# EAGLE library part OPT4048 (library Color_Sensor)
Texas Instruments - OPT4048 Tristiumulus XYZ Color Sensor The OPT4048 is a single-chip high resolution color sensor, capable of measuring four channels each with specific engineered spectral responses. Three of the four channels closely match the CIE tristimulus spectra with the fourth channel having a wide band spectral response. With measurements from these channels, important characteristics of the lighting environment can be extracted like (i) light intensity (lux), (ii) color in CIE XY, LUV coordinates and (iii) Correlated Color Temperature. The OPT4048 is available in a small SOT-5X3 package.
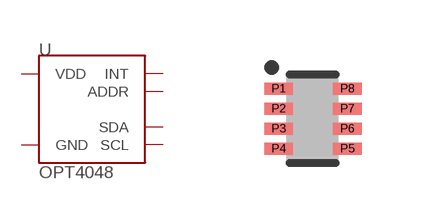
[diagram p0: symbol with the pads of FCSOT; footprint FCSOT]

Designator prefix U

## OPT4048 (PROD_ID: IC-18868)  [FCSOT]
P1  VDD
P2  ADDR
P4  GND
P5  SCL
P7  INT
P8  SDA

## Footprint FCSOT (pad centres in mm)
FCSOT Mechanical Specifications: Pad Size: .72mm x .3mm Pin count: 8 Pin pitch: .5mm Package Size: 1mm x 2mm Datasheet referenced for footprint <https://www.ti.com/lit/ds/symlink/opt4048.pdf?ts=1686559080900>
smd 0.72 x 0.3: P1 -0.889,0.762; P2 -0.889,0.262; P3 -0.889,-0.238; P4 -0.889,-0.738; P5 0.831,-0.738; P6 0.831,-0.238; P7 0.831,0.262; P8 0.831,0.762